# Altium footprint library Wuerth_Elektronik_151051RS11000_0.PcbLib: 1 footprints
Each footprint in its own frame and in the unit in brackets; x right, y up, seen from the top. Pads: shape width x height; smd on the part's side, far side on the other; paste and mask are expansions set on the pad; w line width, h text height; cw(c..) or ccw(c..) is an arc to the next point about the centre after c.
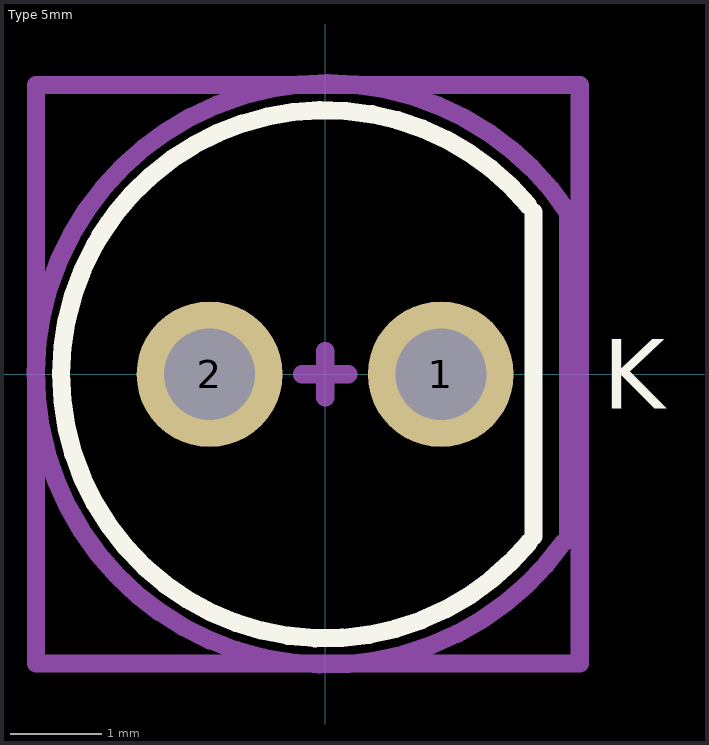
[diagram p0: the footprint, top view; thin cyan lines are the x and y axes]

## Type 5mm [mm] "THT, LED-5mm, 2pin- Body 5.8mm"
height 12.1
pads (2):
  round 1.6 hole 1: 1(1.27,0) 2(-1.27,0)
Top Overlay:
  lines w0.2: -2.47,1.52 cw(c0,0) 2.228,1.857 ; -2.369,1.672 ccw(c0,0) 2.239,-1.844 ; 2.286,-1.778 2.286,1.778
  text "K" at 3.048,-0.381 h0.76
Mechanical 13:
  lines w0.2: -3.175,-3.175 -3.175,3.175 2.794,3.175 2.794,-3.175 -3.175,-3.175
Mechanical 15:
  lines w0.2: -0.254,0 0.254,0 ; 0,-0.254 0,0.254 ; 2.616,-1.846 cw(c0.014,0.003) 2.667,1.778 2.667,-1.778
  text "K" at 3.048,-0.381 h0.76
  text ".Designator" at 0,0 h0.76
3D body: height 11.7, standoff -23.3, extent -2.9,-2.9 2.5,2.9